# EAGLE library part TEXAS_INSTRUMENTS-BUCK_CONVERTER-TPS56637RPAR (library Module_Regulators)
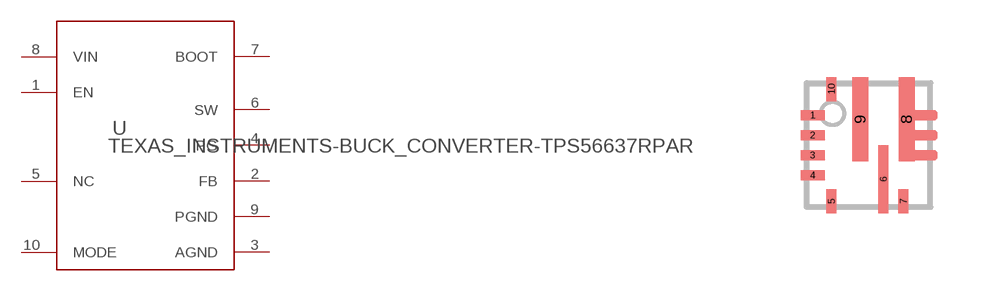
[diagram p35: symbol with the pads of TEXAS_INSTRUMENTS-BUCK_CONVERTER-TPS56637RPAR; footprint TEXAS_INSTRUMENTS-BUCK_CONVERTER-TPS56637RPAR]

Designator prefix U

## TEXAS_INSTRUMENTS-BUCK_CONVERTER-TPS56637RPAR (MANUFACTURER: Texas Instruments; PARTNUMBER: TPS56637RPAR; REFDES: RefDes; TYPE: TYPE; VALUE: Value)  [TEXAS_INSTRUMENTS-BUCK_CONVERTER-TPS56637RPAR]
1  EN  pwr
2  FB  pwr
3  AGND  pwr
4  PG  pwr
5  NC  pas
6  SW  pwr
7  BOOT  pwr
8  VIN  pwr
9  PGND  pwr
10  MODE  pwr

## Footprint TEXAS_INSTRUMENTS-BUCK_CONVERTER-TPS56637RPAR (pad centres in mm)
smd 0.6 x 0.25: 1 -1.4,0.75; 2 -1.4,0.25; 3 -1.4,-0.25; 4 -1.4,-0.75
smd 0.25 x 0.6: 5 -0.93,-1.4; 7 0.87,-1.4; 10 -0.93,1.4
smd 0.25 x 1.7: 6 0.37,-0.85
smd 0.4 x 2.1: 8 0.95,0.65; 9 -0.21,0.65